# EAGLE library part D15V35F5S3 (library veter)
D15V35F5S3 - Breakout Pololu Step-Down Voltage Regulator D15V35F5S3 from http://www.pololu.com/catalog/product/2110
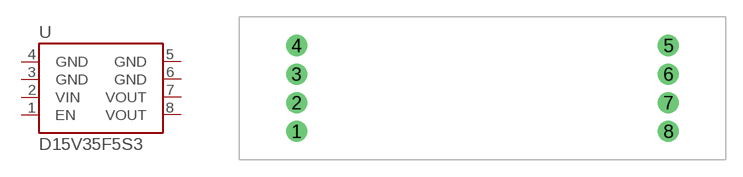
[diagram p2: symbol with the pads of D15V35F5S3-BREAKOUT; footprint D15V35F5S3-BREAKOUT]

Designator prefix -

## D15V35F5S3  [D15V35F5S3-BREAKOUT]
1  EN  in
2  VIN  pwr
3  GND  pwr
4  GND  pwr
5  GND  pwr
6  GND  pwr
7  VOUT  pwr
8  VOUT  pwr

## Footprint D15V35F5S3-BREAKOUT (pad centres in mm)
D15V35F5S3 - Breakout Pololu Step-Down Voltage Regulator D15V35F5S3 from http://www.pololu.com/catalog/product/2110
drill 1.016 pad 1.88: 1 -16.51,-3.81; 2 -16.51,-1.27; 3 -16.51,1.27; 4 -16.51,3.81; 5 16.51,3.81; 6 16.51,1.27; 7 16.51,-1.27; 8 16.51,-3.81